# Altium schematic symbol library XRadio.SchLib: 1 symbol
Pins are listed as number, name and electrical type; pins without a type are passive.

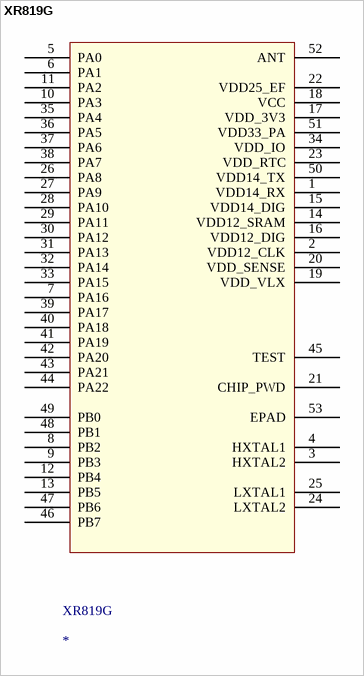
[diagram p0: symbol XR819G]

## XR819G
designator XR819G
pins: 1 VDD14_RX, 2 VDD12_CLK, 3 HXTAL2, 4 HXTAL1, 5 PA0, 6 PA1, 7 PA16, 8 PB2, 9 PB3, 10 PA3, 11 PA2, 12 PB4, 13 PB5, 14 VDD12_SRAM, 15 VDD14_DIG, 16 VDD12_DIG, 17 VDD_3V3, 18 VCC, 19 VDD_VLX, 20 VDD_SENSE, 21 CHIP_PWD, 22 VDD25_EF, 23 VDD_RTC, 24 LXTAL2, 25 LXTAL1, 26 PA8, 27 PA9, 28 PA10, 29 PA11, 30 PA12, 31 PA13, 32 PA14, 33 PA15, 34 VDD_IO, 35 PA4, 36 PA5, 37 PA6, 38 PA7, 39 PA17, 40 PA18, 41 PA19, 42 PA20, 43 PA21, 44 PA22, 45 TEST, 46 PB7, 47 PB6, 48 PB1, 49 PB0, 50 VDD14_TX, 51 VDD33_PA, 52 ANT, 53 EPAD